# Altium integrated library LIB2022 - Filters.IntLib: 2 symbols
Pins are listed as number, name and electrical type; pins without a type are passive.

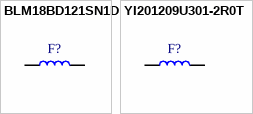
[diagram p0: symbols BLM18BD121SN1D to YI201209U301-2R0T]

## BLM18BD121SN1D
designator F?
400mΩ ±25% 120Ω@100MHz 0603
footprint 0603-IND-MURATA
pins: 1, 2

## YI201209U301-2R0T
designator F?
100mΩ ±25% 300Ω@100MHz 0805; JLCPart: C2858467
footprint 0805-IND
pins: 1, 2